# Altium schematic symbol library Capacitor_Components.SchLib: 30 symbols
Pins are listed as number, name and electrical type; pins without a type are passive.

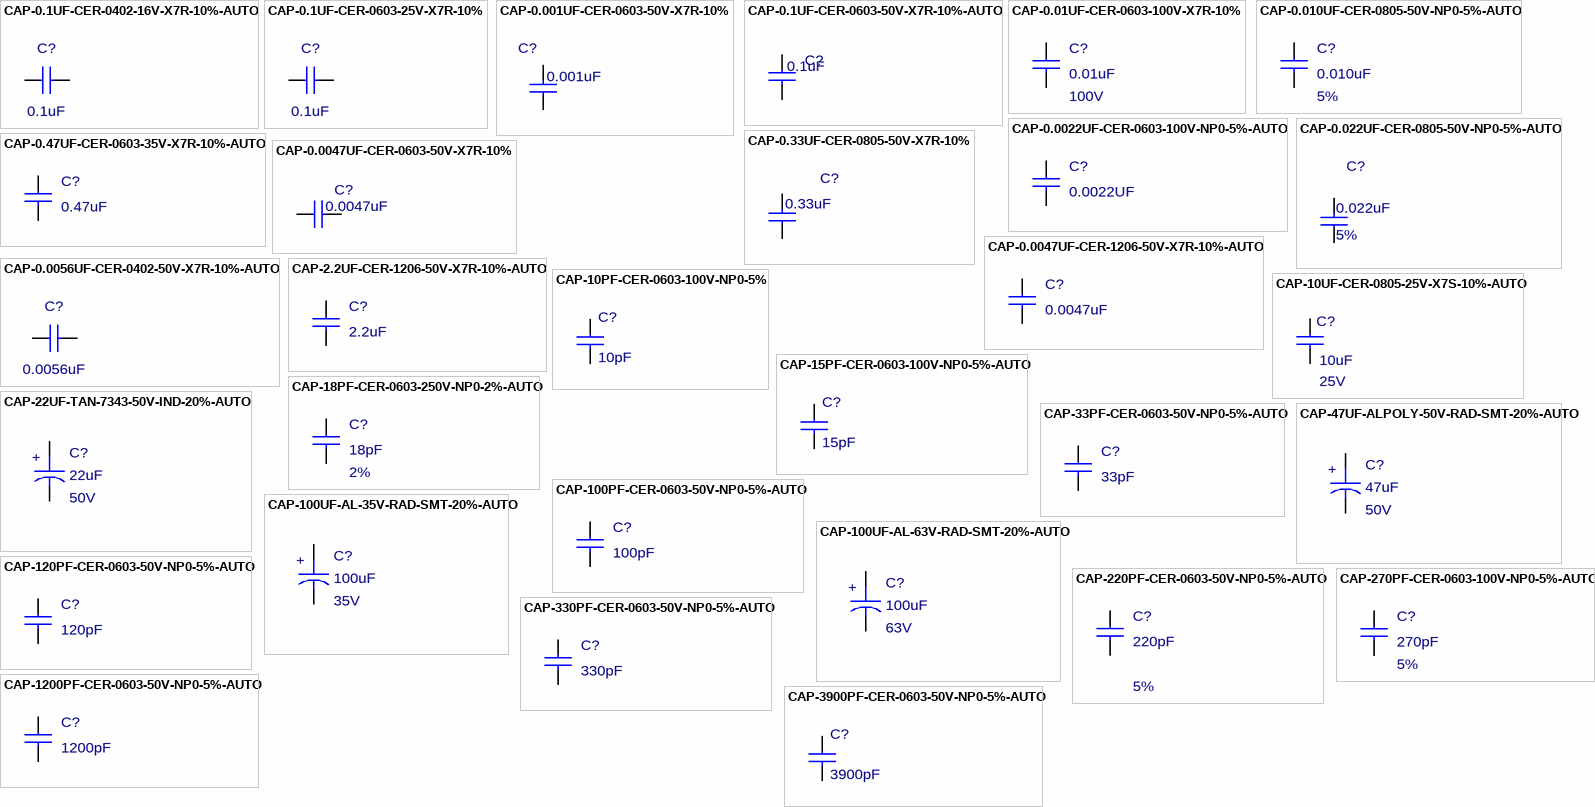
[diagram p0: symbols CAP-0.1UF-CER-0402-16V-X7R-10%-AUTO to CAP-3900PF-CER-0603-50V-NP0-5%-AUTO]

## CAP-0.1UF-CER-0402-16V-X7R-10%-AUTO
designator C?  value 0.1uF  (hidden comment: CAP-0.1UF-CER-0402-16V-X7R-10%-AUTO)
Capacitor, Cerm, 0.1uF, 16V, 10%, X7R, 0402, AEC-Q200; MFGPN: GCM155R71C104KA55D; MFG: Murata; PCB DECAL: 0402; Voltage: 16V; Tolerance: 10%
footprint 0402_C (Chip Capacitor, 0402)
pins: 1, 2 1

## CAP-0.1UF-CER-0603-25V-X7R-10%
designator C?  value 0.1uF  (hidden comment: CAP-0.1UF-CER-0603-25V-X7R-10%)
Capacitor, Cerm, 0.1uF, 25V, 10%, X7R, 0603; MFGPN: 06033C104KAT2A; MFG: AVX; QPN: 123-002153-0104; PCB DECAL: 0603; Voltage: 25V; Tolerance: 10%
footprint 0603_C
pins: 1, 2 1

## CAP-0.001UF-CER-0603-50V-X7R-10%
designator C?  value 0.001uF  (hidden comment: CAP-0.001UF-CER-0603-50V-X7R-10%)
Capacitor, Cerm, 0.001uF, 50V, 10%, X7R, 0603; Checked: JER 4-3-10; MFG: AVX; MFGPN: 06035C102KAT2A; QPN: 123-002173-0102; PCB DECAL: 0603; Temp: 125C; Tolerance: 10%; Voltage: 50V
footprint 0603_C (Chip Capacitor, 0603)
pins: 1, 2

## CAP-0.1UF-CER-0603-50V-X7R-10%-AUTO
designator C?  value 0.1uF  (hidden comment: CAP-0.1UF-CER-0603-50V-X7R-10%-AUTO)
Capacitor, Cerm, 0.1uF, 50V, 10%, X7R, 0603; MFG: Murata; MFGPN: GCM188R71H104KA57J; QPN: 123-002173-0104; PCB DECAL: 0603; Temp: 125C; Geometry.height: 0.031"; Tolerance: 10%; Voltage: 50V
footprint 0603_C (Chip Capacitor, 0603)
pins: 1, 2

## CAP-0.01UF-CER-0603-100V-X7R-10%
designator C?  value 0.01uF  Voltage: 100V  (hidden comment: CAP-0.01UF-CER-0603-100V-X7R-10%)
Capacitor, Cerm, 0.01uF, 100V, 10%, X7R, 0603; MFG: Murata; MFGPN: GCM188R72A103KA37D; QPN: 123-002183-0103; PCB DECAL: 0603; Geometry.Height: 0.035"; Temp: 125C; Tolerance: 10%
footprint 0603_C (Chip Capacitor, 0603)
pins: 1, 2

## CAP-0.010UF-CER-0805-50V-NP0-5%-AUTO
designator C?  value 0.010uF  Tolerance: 5%  (hidden comment: CAP-0.010UF-CER-0805-50V-NP0-5%-AUTO)
Capacitor, Cerm, 0.010uF, 80V, 5%, NP0, 0805, Auto; MFG: Murata; MFGPN: GCM1885C1H103JA16D; PCB DECAL: 0805; Voltage: 80V
footprint 0805_C (0805 Capacitor)
pins: 1, 2

## CAP-0.0022UF-CER-0603-100V-NP0-5%-AUTO
designator C?  value 0.0022UF  (hidden comment: CAP-0.0022UF-CER-0603-100V-NP0-5%-AUTO)
Capacitor, Cerm, 0.0022uF, 100V, 1%, C0G/NP0, 0603, Auto; Tolerance: 5%; MFG: Murata; MFGPN: GCM1885C2A222JE02V; PCB DECAL: 0603; Temp: 125C; Voltage: 100V
footprint 0402_C (Chip Capacitor, 0402)
pins: 1, 2

## CAP-0.022UF-CER-0805-50V-NP0-5%-AUTO
designator C?  value 0.022uF  Tolerance: 5%  (hidden comment: CAP-0.022UF-CER-0805-50V-NP0-5%-AUTO)
Capacitor, Cerm, 0.022uF, 50V, 5%, NP0, 0805, Auto; QPN: 123-003072-0223; MFGPN: GCM21B5C1H223JA16L; MFG: Murata; PCB DECAL: 0805; Temp: 125C; Voltage: 50V
footprint 0805_C (0805 Capacitor)
pins: 1, 2

## CAP-0.33UF-CER-0805-50V-X7R-10%
designator C?  value 0.33uF  (hidden comment: CAP-0.33UF-CER-0805-50V-X7R-10%)
Capacitor, Cerm, 0.33uF, 50V, 10%, X7R, 0805; MFG: TDK Corporation; PCB DECAL: 0805; MFGPN: CGA4J2X7R1H334K125AA; QPN: 123-003173-0334; Temp: 125C; Geometry.height: 0.050"; Voltage: 50V; Tolerance: 10%
footprint 0805_C (0805 Capacitor)
pins: 1, 2

## CAP-0.47UF-CER-0603-35V-X7R-10%-AUTO
designator C?  value 0.47uF  (hidden comment: CAP-0.47UF-CER-0603-35V-X7R-10%-AUTO)
Capacitor,Cerm, 0.47uF, 35V, 10% X7R. 0603; MFGPN: CGA3E1X7R1V474K080AC; MFG: TDK; Temp: 125C; Voltage: 35V; Tolerance: 10%
footprint 0603_C (Chip Capacitor, 0603)
pins: 1, 2

## CAP-0.0047UF-CER-0603-50V-X7R-10%
designator C?  value 0.0047uF  (hidden comment: CAP-0.0047UF-CER-0603-50V-X7R-10%)
Capacitor, Cerm, 0.0047uF, 50V, 10%, X7R, 0603; Checked: JER 4-3-10; MFG: AVX; MFGPN: 06035C472KAT2A; QPN: 123-002173-0472; PCB DECAL: 0603; Created By: MPR 05/24/07; Tolerance: 10%; Voltage: 50V
footprint 0603_C
pins: 1, 2

## CAP-0.0047UF-CER-1206-50V-X7R-10%-AUTO
designator C?  value 0.0047uF  (hidden comment: CAP-0.0047UF-CER-1206-50V-X7R-10%-AUTO)
Capacitor, Cerm, 0.0047uF, 50V, 10%, X7R, 0603, Auto; MFG: Murata; MFGPN: GCM188R71H472KA37; PCB DECAL: 0603; Temp: 125C; Geometry.height: 0.035; Tolerance: 10%; Voltage: 50V
footprint 1206_C
pins: 1, 2

## CAP-0.0056UF-CER-0402-50V-X7R-10%-AUTO
designator C?  value 0.0056uF  (hidden comment: CAP-0.0056UF-CER-0402-50V-X7R-10%-AUTO)
Capacitor, Cerm, 0.0056uF, 50V, 10%, X7R, 0402, AEC-Q200; MFGPN: GCM155R71H562KA55D; MFG: Murata; PCB DECAL: 0402; Voltage: 50V; Tolerance: 10%
footprint 0402_C (Chip Capacitor, 0402)
pins: 1, 2 1

## CAP-2.2UF-CER-1206-50V-X7R-10%-AUTO
designator C?  value 2.2uF  (hidden comment: CAP-2.2UF-CER-1206-50V-X7R-10%-AUTO)
Capacitor, Cerm, 2.2uF, 50V, 10%, X7R, 1206, Auto; QPN: 123-004173-0225; MFGPN: GCM31CR71H225KA55L; MFG: Murata; PCB DECAL: 1206; Temp: 125C; Geometry.height: 0.070; Voltage: 50V; Tolerance: 10%
footprint 1206_C
pins: 1, 2 1

## CAP-10PF-CER-0603-100V-NP0-5%
designator C?  value 10pF  (hidden comment: CAP-10PF-CER-0603-100V-NP0-5%)
Capacitor, Cerm, 10pF, 100V, 5%, NP0, 0603; MFG: AVX; MFGPN: 06031A100JAT2A; QPN: 123-002082-0100; Voltage: 50V; PCB DECAL: 0603; Temp: 125C; Tolerance: 5%
footprint 0603_C (Chip Capacitor, 0603)
pins: 1, 2

## CAP-10UF-CER-0805-25V-X7S-10%-AUTO
designator C?  value 10uF  Voltage: 25V  (hidden comment: CAP-10UF-CER-0805-25V-X7S-10%-AUTO)
Capacitor, Cerm, 10uF, 25V, 10%, X7S, 0805, Auto; MFGPN: GCM21BC71E106KE36L; MFG: Murata; PCB DECAL: 0805; Temp: 125C; Tolerance: 10%
footprint 0805_C (0805 Capacitor)
pins: 1, 2

## CAP-15PF-CER-0603-100V-NP0-5%-AUTO
designator C?  value 15pF  (hidden comment: CAP-15PF-CER-0603-100V-NP0-5%-AUTO)
Capacitor, Cerm, 15pF, 100V, 10%, NP0, 0603, AEC-Q200; Tolerance: 5%; PCB DECAL: 0603; Temp: 125C; Voltage: 100V; Notes: AEC-Q200
footprint 0603_C (Chip Capacitor, 0603)
pins: 1, 2

## CAP-18PF-CER-0603-250V-NP0-2%-AUTO
designator C?  value 18pF  Tolerance: 2%  (hidden comment: CAP-18PF-CER-0603-250V-NP0-2%-AUTO)
Capacitor,Cerm,18pF,250V,2%,NP0,0603; MFG: Kemet; MFGPN: C0603C180J3GACAUTO; PCB DECAL: 0603; Voltage: 250V
footprint 0603_C (Chip Capacitor, 0603)
pins: 1, 2

## CAP-22UF-TAN-7343-50V-IND-20%-AUTO
designator C?  value 22uF  Voltage: 50V  (hidden comment: CAP-22UF-TAN-7343-50V-IND-20%-AUTO)
Capacitor, Tantalum, 22uF, 50V, 20%, Ind Temp, 7343, Auto; MFGPN: T491X226M050ATAUTO; MFG: KEMET; PCB DECAL: CAP/7343/TANT; Temp: 125C; Functional Block: 1; Tolerance: 20%; Polarity: *
footprint 7343_TANT
pins: 1 +, 2 -

## CAP-33PF-CER-0603-50V-NP0-5%-AUTO
designator C?  value 33pF  (hidden comment: CAP-33PF-CER-0603-50V-NP0-5%-AUTO)
Capacitor, Cerm, 33pF, 100V, 5%, NP0, 0603, AUTO; MFG: Murata; MFGPN: GCM1885C2A330JA16D; PCB DECAL: 0603; Temp: 125C; Tolerance: 5%; Voltage: 100V
footprint 0603_C (Chip Capacitor, 0603)
pins: 1, 2 1

## CAP-47UF-ALPOLY-50V-RAD-SMT-20%-AUTO
designator C?  value 47uF  Voltage: 50V  (hidden comment: CAP-47UF-ALPOLY-50V-RAD-SMT-20%-AUTO)
Capacitor, Aluminum, Poly  47uF, 50V, 20%, SMT RAD, Automotive; MFG: Nichicon; MFGPN: PCV1H470MCL7GS; Geometry.height: 0.394"; Tolerance: 20%
footprint CAP-ALE-8.3X8.3
pins: 1, 2
text: +

## CAP-100PF-CER-0603-50V-NP0-5%-AUTO
designator C?  value 100pF  (hidden comment: CAP-100PF-CER-0603-50V-NP0-5%-AUTO)
Capacitor, Cerm, 100pF,50V, 5%, NP0,0603, AEC-Q200; MFGPN: GCM1885C1H101JA16D; MFG: Murata Electronics; Temp: 125C; Geometry.height: 0.031"; Voltage: 50V; Tolerance: 5%
footprint 0603_C (Chip Capacitor, 0603)
pins: 1, 2

## CAP-100UF-AL-35V-RAD-SMT-20%-AUTO
designator C?  value 100uF  Voltage: 35V  (hidden comment: CAP-100UF-AL-35V-RAD-SMT-20%-AUTO)
Capacitor, Aluminum, 100uF, 63V, 20%, SMT RAD, IND; MFG: Nichicon; MFGPN: UCD1V101MCL6GS; Geometry.height: 0.314"; Tolerance: 20%
footprint CAP_ALE_10.3x10.3
pins: 1, 2
text: +

## CAP-100UF-AL-63V-RAD-SMT-20%-AUTO
designator C?  value 100uF  Voltage: 63V  (hidden comment: CAP-100UF-AL-63V-RAD-SMT-20%-AUTO)
Capacitor, Aluminum, 100uF, 63V, 20%, SMT RAD, IND; MFG: Nichicon; MFGPN: UUX1J101MNL1GS; Geometry.height: 0.314"; Tolerance: 20%
footprint CAP_ALE_10.3x10.3
pins: 1, 2
text: +

## CAP-120PF-CER-0603-50V-NP0-5%-AUTO
designator C?  value 120pF  (hidden comment: CAP-120PF-CER-0603-50V-NP0-5%-AUTO)
Capacitor,Cerm,120pF,50V,5%,NP0,0603; QPN: 123-002072-0121; MFGPN: GCM1885C1H121JA16D; MFG: Murata Electronics; Temp: 125C; Geometry.height: 0.031"; Voltage: 50V; Tolerance: 5%
footprint 0603_C (Chip Capacitor, 0603)
pins: 1, 2

## CAP-220PF-CER-0603-50V-NP0-5%-AUTO
designator C?  value 220pF  Tolerance: 5%  (hidden comment: CAP-220PF-CER-0603-50V-NP0-5%-AUTO)
Capacitor, Cerm, 220pF, 50V, 5%, NP0, 0603, Auto; MFG: Murata; MFGPN: GCM1885C1H221JA16J; QPN: 123-002072-0221; Temp: 125C; Geometry.height: 35; Voltage: 50V
footprint 0603_C (Chip Capacitor, 0603)
pins: 1, 2

## CAP-270PF-CER-0603-100V-NP0-5%-AUTO
designator C?  value 270pF  Tolerance: 5%  (hidden comment: CAP-270PF-CER-0603-100V-NP0-5%-AUTO)
Capacitor, Cerm, 270pF, 100V, 5%, NP0, 0603, Auto; MFG: Kemet; MFGPN: C0603C271J1GACAUTO; Voltage: 100V
footprint 0603_C (Chip Capacitor, 0603)
pins: 1, 2

## CAP-330PF-CER-0603-50V-NP0-5%-AUTO
designator C?  value 330pF  (hidden comment: CAP-330PF-CER-0603-50V-NP0-5%-AUTO)
Capacitor, Cerm, 330pF, 50V, 5%, NP0, 0603, Auto; MFG: Murata; MFGPN: GCM1885C1H331JA16D; QPN: 123-002072-0331; Geometry.Height: 0.035"; Temp: 125C; Tolerance: 5%; Voltage: 50V
footprint 0603_C (Chip Capacitor, 0603)
pins: 1, 2

## CAP-1200PF-CER-0603-50V-NP0-5%-AUTO
designator C?  value 1200pF  (hidden comment: CAP-1200PF-CER-0603-50V-NP0-5%-AUTO)
Capacitor, Cerm, 1200pF,50V, 5%, NP0, 0603, AEC-Q200; MFGPN: GCM1885C1H122JA16D; MFG: Murata Electronics; Temp: 125C; Geometry.height: 0.031"; Voltage: 50V; Tolerance: 5%
footprint 0603_C (Chip Capacitor, 0603)
pins: 1, 2

## CAP-3900PF-CER-0603-50V-NP0-5%-AUTO
designator C?, comment value 3900pF  (hidden comment: CAP-10PF-CER-0603-100V-NP0-5%-AUTO)
Capacitor, Ceramic, 3900PF, 0603, 50V, NP0, 5%, AEC-Q200; MFG: Murata Electronics; MFGPN: GCM1885C1H392JA16D; Temp: 125C; Tolerance: 5%; Voltage: 50V
footprint 0603_C (Chip Capacitor, 0603)
pins: 1, 2